# Altium footprint library kernel.PcbLib: 24 footprints (part 2 of 2)
Each footprint in its own frame and in the unit in brackets; x right, y up, seen from the top. Pads: shape width x height; smd on the part's side, far side on the other; paste and mask are expansions set on the pad; w line width, h text height; cw(c..) or ccw(c..) is an arc to the next point about the centre after c.
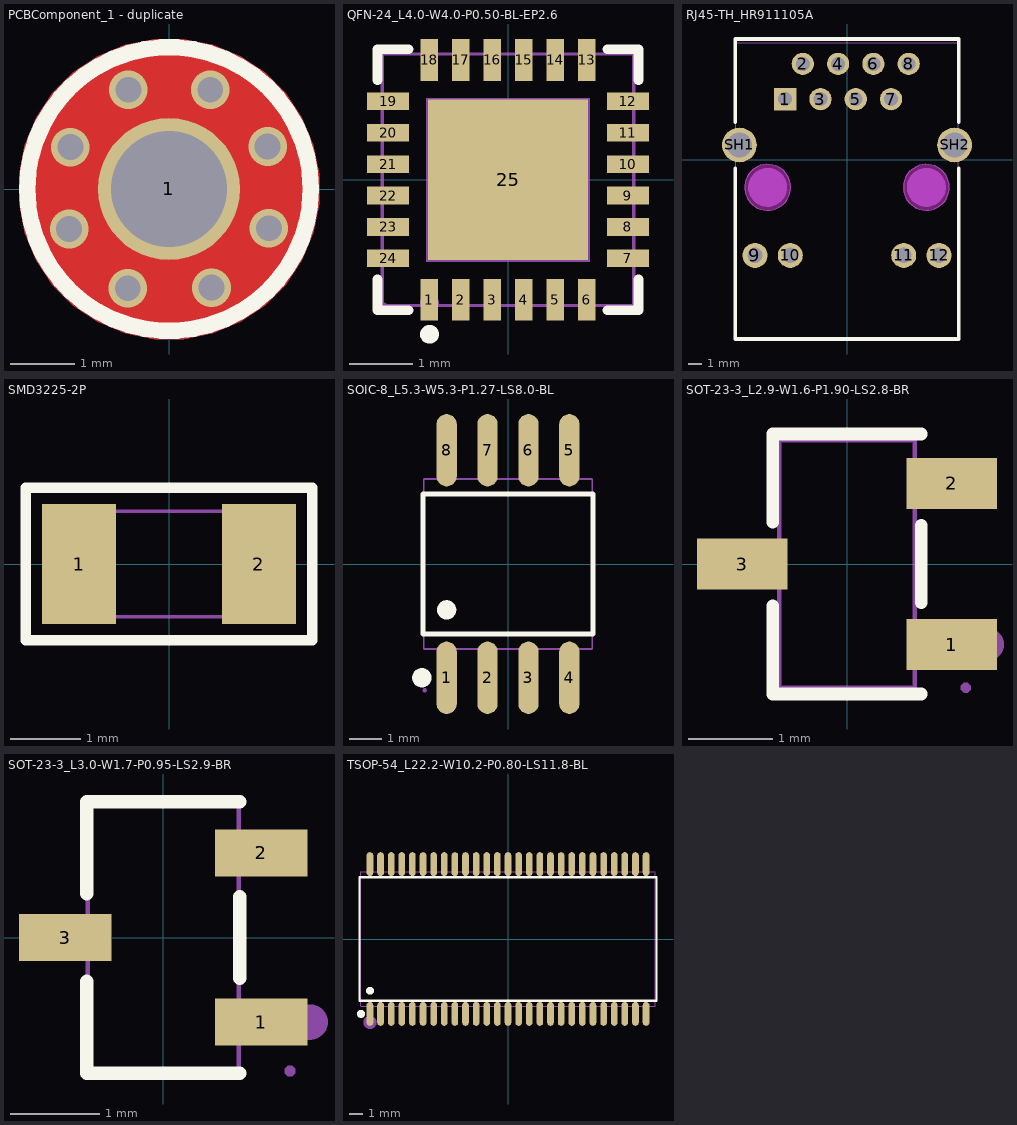
[diagram p1: the footprints below, top view; thin cyan lines are the x and y axes]

## PCBComponent_1 - duplicate [mm]
pads (1):
  round 2.2 hole 1.8 paste+0 mask+0.051: 1(0,0)
via 1.55,-0.61 diameter 0.6 hole 0.4
via 0.66,-1.53 diameter 0.6 hole 0.4
via -0.64,-1.54 diameter 0.6 hole 0.4
via -1.55,-0.62 diameter 0.6 hole 0.4
via -1.53,0.65 diameter 0.6 hole 0.4
via -0.63,1.54 diameter 0.6 hole 0.4
via 0.64,1.54 diameter 0.6 hole 0.4
via 1.53,0.66 diameter 0.6 hole 0.4
Top Layer:
  region: -2.327,0 -2.327,0.229 -2.238,0.679 -2.062,1.102 -1.807,1.483 -1.483,1.807 -1.102,2.062 -0.679,2.238 -0.229,2.327 0.229,2.327 0.679,2.238 1.102,2.062 1.483,1.807 1.807,1.483 2.062,1.102 2.238,0.679 2.327,0.229 2.327,0 2.327,-0.229 2.238,-0.679 2.062,-1.102 1.807,-1.483 1.483,-1.807 1.102,-2.062 0.679,-2.238 0.229,-2.327 -0.229,-2.327 -0.679,-2.238 -1.102,-2.062 -1.483,-1.807 -1.807,-1.483 -2.062,-1.102 -2.238,-0.679 -2.327,-0.229 -2.327,0
Bottom Layer:
  region: -2.327,0 -2.327,0.229 -2.238,0.679 -2.062,1.102 -1.807,1.483 -1.483,1.807 -1.102,2.062 -0.679,2.238 -0.229,2.327 0.229,2.327 0.679,2.238 1.102,2.062 1.483,1.807 1.807,1.483 2.062,1.102 2.238,0.679 2.327,0.229 2.327,0 2.327,-0.229 2.238,-0.679 2.062,-1.102 1.807,-1.483 1.483,-1.807 1.102,-2.062 0.679,-2.238 0.229,-2.327 -0.229,-2.327 -0.679,-2.238 -1.102,-2.062 -1.483,-1.807 -1.807,-1.483 -2.062,-1.102 -2.238,-0.679 -2.286,-0.254
Top Overlay:
  circle w0.254: c0,0 r2.2
Bottom Overlay:
  circle w0.254: c0,0 r2.2
Top Solder:
  region: 1.8,-1.3 1.3,-1.8 0,0
  region: 0.4,-2.2 -0.4,-2.2 0,0
  region: -1.3,-1.8 -1.8,-1.3 0,0
  region: -2.2,-0.4 -2.2,0.4 0,0
  region: -1.8,1.3 -1.3,1.8 0,0
  region: -0.4,2.2 0.4,2.2 0,0
  region: 1.3,1.8 1.8,1.3 0,0
  region: 2.2,0.4 2.2,-0.4 0,0
Bottom Solder:
  region: -1.3,-1.8 -1.8,-1.3 0,0
  region: 0.4,-2.2 -0.4,-2.2 0,0
  region: 1.8,-1.3 1.3,-1.8 0,0
  region: 2.2,0.4 2.2,-0.4 0,0
  region: 1.3,1.8 1.8,1.3 0,0
  region: -0.4,2.2 0.4,2.2 0,0
  region: -2.2,-0.4 -2.2,0.4 0,0
  region: -1.8,1.3 -1.3,1.8 0,0

## QFN-24_L4.0-W4.0-P0.50-BL-EP2.6 [mm] "ETHER_PHY"
pads (25):
  rect 0.28x0.665 smd paste-100 mask+0.05: 1(-1.25,-1.908) 2(-0.75,-1.908) 3(-0.25,-1.908) 4(0.25,-1.908) 5(0.75,-1.908) 6(1.25,-1.908) 13(1.25,1.908) 14(0.75,1.908) 15(0.25,1.908) 16(-0.25,1.908) 17(-0.75,1.908) 18(-1.25,1.908)
  rect 0.665x0.28 smd paste-100 mask+0.05: 7(1.908,-1.25) 8(1.908,-0.75) 9(1.908,-0.25) 10(1.908,0.25) 11(1.908,0.75) 12(1.908,1.25) 19(-1.908,1.25) 20(-1.908,0.75) 21(-1.908,0.25) 22(-1.908,-0.25) 23(-1.908,-0.75) 24(-1.908,-1.25)
  rect 2.55x2.55 smd paste-100 mask+0.05: 25(0,0)
Top Overlay:
  circle w0.15: c-1.25,-2.458 r0.075
  lines w0.152: -2.076,-1.58 -2.076,-2.076 -1.58,-2.076 ; -2.076,1.58 -2.076,2.076 -1.58,2.076 ; 1.58,-2.076 2.076,-2.076 2.076,-1.58 ; 1.58,2.076 2.076,2.076 2.076,1.58
Top Paste:
  region: -1.575,-1.39 -1.575,-1.11 -2.24,-1.11 -2.24,-1.39
  region: -1.575,-0.89 -1.575,-0.61 -2.24,-0.61 -2.24,-0.89
  region: -1.575,-0.39 -1.575,-0.11 -2.24,-0.11 -2.24,-0.39
  region: -1.575,0.11 -1.575,0.39 -2.24,0.39 -2.24,0.11
  region: -1.575,0.61 -1.575,0.89 -2.24,0.89 -2.24,0.61
  region: -1.575,1.11 -1.575,1.39 -2.24,1.39 -2.24,1.11
  region: -1.39,2.24 -1.39,1.575 -1.11,1.575 -1.11,2.24
  region: -0.89,2.24 -0.89,1.575 -0.61,1.575 -0.61,2.24
  region: -0.39,2.24 -0.39,1.575 -0.11,1.575 -0.11,2.24
  region: 0.11,2.24 0.11,1.575 0.39,1.575 0.39,2.24
  region: 0.61,2.24 0.61,1.575 0.89,1.575 0.89,2.24
  region: 1.11,2.24 1.11,1.575 1.39,1.575 1.39,2.24
  region: 2.24,1.11 2.24,1.39 1.575,1.39 1.575,1.11
  region: 2.24,0.61 2.24,0.89 1.575,0.89 1.575,0.61
  region: 2.24,0.11 2.24,0.39 1.575,0.39 1.575,0.11
  region: 2.24,-0.39 2.24,-0.11 1.575,-0.11 1.575,-0.39
  region: 2.24,-0.89 2.24,-0.61 1.575,-0.61 1.575,-0.89
  region: 2.24,-1.39 2.24,-1.11 1.575,-1.11 1.575,-1.39
  region: 1.11,-2.24 1.11,-1.575 1.39,-1.575 1.39,-2.24
  region: 0.61,-2.24 0.61,-1.575 0.89,-1.575 0.89,-2.24
  region: 0.11,-2.24 0.11,-1.575 0.39,-1.575 0.39,-2.24
  region: -0.39,-2.24 -0.39,-1.575 -0.11,-1.575 -0.11,-2.24
  region: -0.89,-2.24 -0.89,-1.575 -0.61,-1.575 -0.61,-2.24
  region: -1.39,-2.24 -1.39,-1.575 -1.11,-1.575 -1.11,-2.24
  region: -1.02,1.02 1.02,1.02 1.02,-1.02 -1.02,-1.02
Mechanical 6:
  circle w0.15: c-1.25,-1.958 r0.075
Mechanical 15:
  region: -1.94,-2 -1.94,-2.025 -1.975,-2.06 -2.025,-2.06 -2.06,-2.025 -2.06,-2 -2.06,-1.975 -2.025,-1.94 -1.975,-1.94 -1.94,-1.975 -1.94,-2
  region: -1.37,-2 -1.37,-1.6 -1.13,-1.6 -1.13,-2
  region: -0.87,-2 -0.87,-1.6 -0.63,-1.6 -0.63,-2
  region: -0.37,-2 -0.37,-1.6 -0.13,-1.6 -0.13,-2
  region: 0.13,-2 0.13,-1.6 0.37,-1.6 0.37,-2
  region: 0.63,-2 0.63,-1.6 0.87,-1.6 0.87,-2
  region: 1.13,-2 1.13,-1.6 1.37,-1.6 1.37,-2
  region: 1.6,-1.37 1.6,-1.13 2,-1.13 2,-1.37
  region: 1.6,-0.87 1.6,-0.63 2,-0.63 2,-0.87
  region: 1.6,-0.37 1.6,-0.13 2,-0.13 2,-0.37
  region: 1.6,0.13 1.6,0.37 2,0.37 2,0.13
  region: 1.6,0.63 1.6,0.87 2,0.87 2,0.63
  region: 1.6,1.13 1.6,1.37 2,1.37 2,1.13
  region: 1.13,2 1.13,1.6 1.37,1.6 1.37,2
  region: 0.63,2 0.63,1.6 0.87,1.6 0.87,2
  region: 0.13,2 0.13,1.6 0.37,1.6 0.37,2
  region: -0.37,2 -0.37,1.6 -0.13,1.6 -0.13,2
  region: -0.87,2 -0.87,1.6 -0.63,1.6 -0.63,2
  region: -1.37,2 -1.37,1.6 -1.13,1.6 -1.13,2
  region: -1.6,1.13 -1.6,1.37 -2,1.37 -2,1.13
  region: -1.6,0.63 -1.6,0.87 -2,0.87 -2,0.63
  region: -1.6,0.13 -1.6,0.37 -2,0.37 -2,0.13
  region: -1.6,-0.37 -1.6,-0.13 -2,-0.13 -2,-0.37
  region: -1.6,-0.87 -1.6,-0.63 -2,-0.63 -2,-0.87
  region: -1.6,-1.37 -1.6,-1.13 -2,-1.13 -2,-1.37
  region: -1.3,1.3 1.3,1.3 1.3,-1.3 -1.3,-1.3
  lines w0.051: -2,-2 -2,2 2,2 2,-2 -2,-2
3D body: height 0.63, standoff -0.77, extent -3.81,1.778 -3.81,1.778

## RJ45-TH_HR911105A [mm]
pads (14):
  rect 1.6x1.6 hole 1: 1(-4.45,4.355)
  round 1.6 hole 1: 2(-3.18,6.895) 3(-1.91,4.355) 4(-0.64,6.895) 5(0.63,4.355) 6(1.9,6.895) 7(3.17,4.355) 8(4.44,6.895)
  round 1.8 hole 1.1: 9(-6.625,-6.895) 10(-4.085,-6.895) 11(4.085,-6.895) 12(6.625,-6.895)
  round 2.5 hole 1.8: SH1(-7.745,1.055) SH2(7.745,1.055)
Top Overlay:
  lines w0.254: -8.05,-0.615 -8.05,-12.915 8.05,-12.915 8.05,-0.615 ; -8.05,2.685 -8.05,8.685 8.05,8.685 ; 8.05,2.685 8.05,8.685
Keep-Out Layer:
  board cut-out: 7.365,-1.995 7.365,-2.158 7.302,-2.476 7.177,-2.777 6.997,-3.047 6.767,-3.277 6.497,-3.457 6.196,-3.582 5.878,-3.645 5.552,-3.645 5.234,-3.582 4.933,-3.457 4.663,-3.277 4.433,-3.047 4.253,-2.777 4.128,-2.476 4.065,-2.158 4.065,-1.995 4.065,-1.833 4.128,-1.514 4.253,-1.213 4.433,-0.943 4.663,-0.713 4.933,-0.533 5.234,-0.408 5.552,-0.345 5.878,-0.345 6.196,-0.408 6.497,-0.533 6.767,-0.713 6.997,-0.943 7.177,-1.213 7.302,-1.514 7.365,-1.833 7.365,-1.995
  board cut-out: -4.065,-1.995 -4.065,-2.158 -4.128,-2.476 -4.253,-2.777 -4.433,-3.047 -4.663,-3.277 -4.933,-3.457 -5.234,-3.582 -5.552,-3.645 -5.878,-3.645 -6.196,-3.582 -6.497,-3.457 -6.767,-3.277 -6.997,-3.047 -7.177,-2.777 -7.302,-2.476 -7.365,-2.158 -7.365,-1.995 -7.365,-1.833 -7.302,-1.514 -7.177,-1.213 -6.997,-0.943 -6.767,-0.713 -6.497,-0.533 -6.196,-0.408 -5.878,-0.345 -5.552,-0.345 -5.234,-0.408 -4.933,-0.533 -4.663,-0.713 -4.433,-0.943 -4.253,-1.213 -4.128,-1.514 -4.065,-1.833 -4.065,-1.995
Keep-Out Layer:
  circle w0.025: c5.715,-1.995 r1.65
  circle w0.025: c-5.715,-1.995 r1.65
  region: 7.365,-1.995 7.365,-2.158 7.302,-2.476 7.177,-2.777 6.997,-3.047 6.767,-3.277 6.497,-3.457 6.196,-3.582 5.878,-3.645 5.552,-3.645 5.234,-3.582 4.933,-3.457 4.663,-3.277 4.433,-3.047 4.253,-2.777 4.128,-2.476 4.065,-2.158 4.065,-1.995 4.065,-1.833 4.128,-1.514 4.253,-1.213 4.433,-0.943 4.663,-0.713 4.933,-0.533 5.234,-0.408 5.552,-0.345 5.878,-0.345 6.196,-0.408 6.497,-0.533 6.767,-0.713 6.997,-0.943 7.177,-1.213 7.302,-1.514 7.365,-1.833 7.365,-1.995
  region: -4.065,-1.995 -4.065,-2.158 -4.128,-2.476 -4.253,-2.777 -4.433,-3.047 -4.663,-3.277 -4.933,-3.457 -5.234,-3.582 -5.552,-3.645 -5.878,-3.645 -6.196,-3.582 -6.497,-3.457 -6.767,-3.277 -6.997,-3.047 -7.177,-2.777 -7.302,-2.476 -7.365,-2.158 -7.365,-1.995 -7.365,-1.833 -7.302,-1.514 -7.177,-1.213 -6.997,-0.943 -6.767,-0.713 -6.497,-0.533 -6.196,-0.408 -5.878,-0.345 -5.552,-0.345 -5.234,-0.408 -4.933,-0.533 -4.663,-0.713 -4.433,-0.943 -4.253,-1.213 -4.128,-1.514 -4.065,-1.833 -4.065,-1.995
Mechanical 1:
  circle w0.025: c5.715,-1.995 r1.65
  circle w0.025: c-5.715,-1.995 r1.65
Mechanical 6:
  circle w1.4: c5.715,-1.995 r0.7
  circle w1.4: c-5.715,-1.995 r0.7
  circle w0.2: c-5.03,4.96 r0.1
Mechanical 15:
  region: -8.02,0.455 -8.02,1.655 -7.72,1.655 -7.72,0.455
  region: 7.72,0.455 7.72,1.655 8.02,1.655 8.02,0.455
  region: 6.325,-6.745 6.925,-6.745 6.925,-7.045 6.325,-7.045
  region: 3.785,-6.745 4.385,-6.745 4.385,-7.045 3.785,-7.045
  region: -4.385,-6.745 -3.785,-6.745 -3.785,-7.045 -4.385,-7.045
  region: -6.925,-6.745 -6.325,-6.745 -6.325,-7.045 -6.925,-7.045
  region: -4.75,4.505 -4.15,4.505 -4.15,4.205 -4.75,4.205
  region: -3.48,7.045 -2.88,7.045 -2.88,6.745 -3.48,6.745
  region: -2.21,4.505 -1.61,4.505 -1.61,4.205 -2.21,4.205
  region: -0.94,7.045 -0.34,7.045 -0.34,6.745 -0.94,6.745
  region: 0.33,4.505 0.93,4.505 0.93,4.205 0.33,4.205
  region: 1.6,7.045 2.2,7.045 2.2,6.745 1.6,6.745
  region: 2.87,4.505 3.47,4.505 3.47,4.205 2.87,4.205
  region: 4.14,7.045 4.74,7.045 4.74,6.745 4.14,6.745
  region: -7.96,8.405 -7.96,8.38 -7.995,8.345 -8.045,8.345 -8.08,8.38 -8.08,8.405 -8.08,8.43 -8.045,8.465 -7.995,8.465 -7.96,8.43 -7.96,8.405
  lines w0.051: -8.02,-12.895 8.02,-12.895 8.02,8.405 -8.02,8.405 -8.02,-12.895
3D body "HR911105A.STEP": height 13.5, standoff -3, extent -7.879,-12.858 8.001,8.542

## SMD3225-2P [mm]
pads (2):
  rect 1.05x1.7 smd: 1(-1.275,0) 2(1.275,0)
Top Overlay:
  lines w0.152: -2.029,-1.079 -2.029,1.079 2.029,1.079 2.029,-1.079 -2.029,-1.079
Mechanical 15:
  region: -1.54,-0.75 -1.54,-0.775 -1.575,-0.81 -1.625,-0.81 -1.66,-0.775 -1.66,-0.75 -1.66,-0.725 -1.625,-0.69 -1.575,-0.69 -1.54,-0.725 -1.54,-0.75
  region: -1.45,0.65 -0.85,0.65 -0.85,-0.65 -1.45,-0.65
  region: 0.85,0.65 1.45,0.65 1.45,-0.65 0.85,-0.65
  lines w0.051: -1.6,-0.75 -1.6,0.75 1.6,0.75 1.6,-0.75 -1.6,-0.75

## SOIC-8_L5.3-W5.3-P1.27-LS8.0-BL [mm]
pads (8):
  oval 0.63x2.25 smd: 1(-1.905,-3.53) 2(-0.635,-3.53) 3(0.635,-3.53) 4(1.905,-3.53) 5(1.905,3.53) 6(0.635,3.53) 7(-0.635,3.53) 8(-1.905,3.53)
Top Overlay:
  circle w0.3: c-1.905,-1.424 r0.15
  circle w0.3: c-2.672,-3.53 r0.15
  lines w0.152: -2.639,-2.176 -2.639,2.176 2.639,2.176 2.639,-2.176 -2.639,-2.176
Mechanical 6:
  circle w0.3: c-1.905,-4.35 r0.15
Mechanical 15:
  region: -2.525,-3.92 -2.525,-3.945 -2.56,-3.98 -2.61,-3.98 -2.645,-3.945 -2.645,-3.92 -2.645,-3.895 -2.61,-3.86 -2.56,-3.86 -2.525,-3.895 -2.525,-3.92
  region: -2.13,-3.95 -2.13,-3.3 -1.68,-3.3 -1.68,-3.95
  region: -2.13,-3.31 -2.13,-2.595 -1.68,-2.595 -1.68,-3.31
  region: -0.86,-3.95 -0.86,-3.3 -0.41,-3.3 -0.41,-3.95
  region: -0.86,-3.31 -0.86,-2.595 -0.41,-2.595 -0.41,-3.31
  region: 0.41,-3.95 0.41,-3.3 0.86,-3.3 0.86,-3.95
  region: 0.41,-3.31 0.41,-2.595 0.86,-2.595 0.86,-3.31
  region: 1.68,-3.95 1.68,-3.3 2.13,-3.3 2.13,-3.95
  region: 1.68,-3.31 1.68,-2.595 2.13,-2.595 2.13,-3.31
  region: -2.13,3.95 -2.13,3.3 -1.68,3.3 -1.68,3.95
  region: -2.13,3.31 -2.13,2.595 -1.68,2.595 -1.68,3.31
  region: -0.86,3.95 -0.86,3.3 -0.41,3.3 -0.41,3.95
  region: -0.86,3.31 -0.86,2.595 -0.41,2.595 -0.41,3.31
  region: 0.41,3.95 0.41,3.3 0.86,3.3 0.86,3.95
  region: 0.41,3.31 0.41,2.595 0.86,2.595 0.86,3.31
  region: 1.68,3.95 1.68,3.3 2.13,3.3 2.13,3.95
  region: 1.68,3.31 1.68,2.595 2.13,2.595 2.13,3.31
  lines w0.051: -2.615,-2.64 -2.615,2.64 2.615,2.64 2.615,-2.64 -2.615,-2.64

## SOT-23-3_L2.9-W1.6-P1.90-LS2.8-BR [mm]
pads (3):
  rect 1.07x0.6 smd: 1(1.235,-0.95) 2(1.235,0.95) 3(-1.235,0)
Top Overlay:
  lines w0.152: -0.876,-0.495 -0.876,-1.536 0.876,-1.536 ; -0.876,0.495 -0.876,1.536 0.876,1.536 ; 0.876,-0.455 0.876,0.455
Mechanical 6:
  circle w0.2: c1.651,-0.95 r0.1
Mechanical 15:
  region: 1.46,-1.46 1.46,-1.485 1.425,-1.52 1.375,-1.52 1.34,-1.485 1.34,-1.46 1.34,-1.435 1.375,-1.4 1.425,-1.4 1.46,-1.435 1.46,-1.46
  region: 0.95,-1.15 0.95,-0.75 1.4,-0.75 1.4,-1.15
  region: 0.79,-1.15 0.79,-0.75 0.96,-0.75 0.96,-1.15
  region: 0.95,0.75 0.95,1.15 1.4,1.15 1.4,0.75
  region: 0.79,0.75 0.79,1.15 0.96,1.15 0.96,0.75
  region: -0.95,-0.2 -0.95,0.2 -1.4,0.2 -1.4,-0.2
  region: -0.96,-0.2 -0.96,0.2 -0.79,0.2 -0.79,-0.2
  lines w0.051: -0.8,-1.46 -0.8,1.46 0.8,1.46 0.8,-1.46 -0.8,-1.46

## SOT-23-3_L3.0-W1.7-P0.95-LS2.9-BR [mm] "S8050"
pads (3):
  rect 1.037x0.532 smd: 1(1.101,-0.95) 2(1.101,0.95) 3(-1.101,0)
Top Overlay:
  lines w0.152: -0.859,-0.495 -0.859,-1.526 0.859,-1.526 ; -0.859,0.495 -0.859,1.526 0.859,1.526 ; 0.859,-0.455 0.859,0.455
Mechanical 6:
  circle w0.2: c1.65,-0.95 r0.1
Mechanical 15:
  region: 1.485,-1.5 1.485,-1.525 1.45,-1.56 1.4,-1.56 1.365,-1.525 1.365,-1.5 1.365,-1.475 1.4,-1.44 1.45,-1.44 1.485,-1.475 1.485,-1.5
  region: -1.01,-0.188 -1.01,0.188 -0.815,0.188 -0.815,-0.188
  region: -1.425,-0.188 -1.425,0.188 -1,0.188 -1,-0.188
  region: 0.815,0.762 0.815,1.137 1.01,1.137 1.01,0.762
  region: 1,0.762 1,1.137 1.425,1.137 1.425,0.762
  region: 0.815,-1.137 0.815,-0.762 1.01,-0.762 1.01,-1.137
  region: 1,-1.137 1,-0.762 1.425,-0.762 1.425,-1.137
  lines w0.051: -0.85,-1.5 0.85,-1.5 0.85,1.5 -0.85,1.5 -0.85,-1.5

## TSOP-54_L22.2-W10.2-P0.80-LS11.8-BL [mm]
pads (54):
  oval 0.5x1.8 smd: 1(-10.4,-5.642) 2(-9.6,-5.642) 3(-8.8,-5.642) 4(-8,-5.642) 5(-7.2,-5.642) 6(-6.4,-5.642) 7(-5.6,-5.642) 8(-4.8,-5.642) 9(-4,-5.642) 10(-3.2,-5.642) 11(-2.4,-5.642) 12(-1.6,-5.642) 13(-0.8,-5.642) 14(0,-5.642) 15(0.8,-5.642) 16(1.6,-5.642) 17(2.4,-5.642) 18(3.2,-5.642) 19(4,-5.642) 20(4.8,-5.642) 21(5.6,-5.642) 22(6.4,-5.642) 23(7.2,-5.642) 24(8,-5.642) 25(8.8,-5.642) 26(9.6,-5.642) 27(10.4,-5.642) 28(10.4,5.642) 29(9.6,5.642) 30(8.8,5.642) 31(8,5.642) 32(7.2,5.642) 33(6.4,5.642) 34(5.6,5.642) 35(4.8,5.642) 36(4,5.642) 37(3.2,5.642) 38(2.4,5.642) 39(1.6,5.642) 40(0.8,5.642) 41(0,5.642) 42(-0.8,5.642) 43(-1.6,5.642) 44(-2.4,5.642) 45(-3.2,5.642) 46(-4,5.642) 47(-4.8,5.642) 48(-5.6,5.642) 49(-6.4,5.642) 50(-7.2,5.642) 51(-8,5.642) 52(-8.8,5.642) 53(-9.6,5.642) 54(-10.4,5.642)
Top Overlay:
  circle w0.3: c-10.4,-3.899 r0.15
  circle w0.3: c-11.076,-5.642 r0.15
  lines w0.152: -11.186,-4.651 -11.186,4.651 11.186,4.651 11.186,-4.651 -11.186,-4.651
Mechanical 6:
  circle w0.5: c-10.4,-6.28 r0.25
Mechanical 15:
  drawing of 113 lines, arcs and shapes, not listed